# Altium schematic symbol library power_ac.SchLib: 7 symbols
Pins are listed as number, name and electrical type; pins without a type are passive.

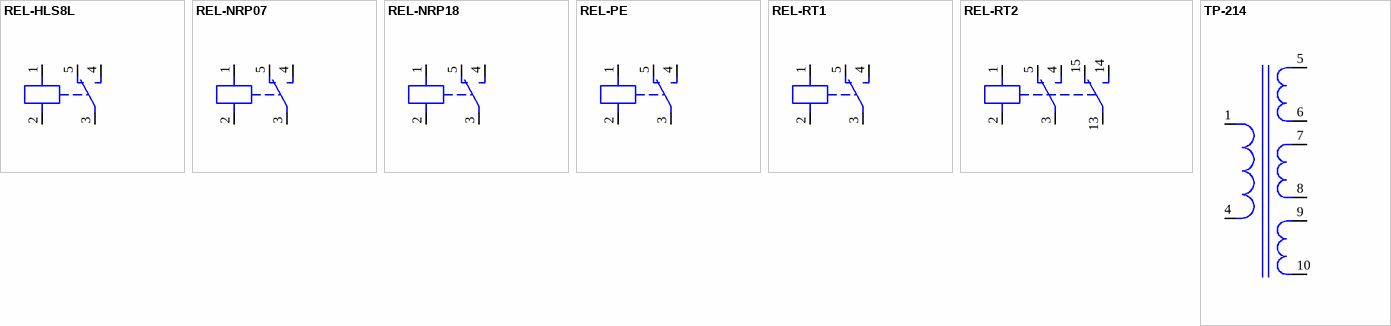
[diagram p0: symbols REL-HLS8L to TP-214]

## REL-HLS8L
designator K?  (value not drawn)
Automotive relay 10A; Name: REL-HLS8L; Value: *; RevisionDate: 11-01-2018
footprint REL-HLS8-16.0
pins: 1, 2, 3, 4, 5

## REL-NRP07
designator K?  (value not drawn)
Automotive relay; Name: *; Value: *; RevisionDate: 11-01-2018
footprint REL-NRP07-15.6
pins: 1, 2, 3, 4, 5

## REL-NRP18
designator K?  (value not drawn)
Automotive relay; Name: *; Value: *; RevisionDate: 11-01-2018
footprint REL-NRP18-14.0
pins: 1, 2, 3, 4, 5

## REL-PE
designator K?  (value not drawn)
Automotive relay; Name: *; Value: *; RevisionDate: 11-01-2018
footprint REL-PE-7.6-10.0
pins: 1, 2, 3, 4, 5

## REL-RT1
designator K?  (value not drawn)
Automotive relay; Name: *; Value: *; RevisionDate: 11-01-2018
footprint REL-RT1-3.5-15.7
footprint REL-RT1-5.0-15.7
pins: 1, 2, 3, 4, 5

## REL-RT2
designator K?  (value not drawn)
Automotive relay X2; Name: *; Value: *; RevisionDate: 11-01-2018
footprint REL-RT2-5.0-15.7
pins: 1, 2, 3, 4, 5, 13 3, 14 4, 15 5

## TP-214
designator T?  (value not drawn)
Transformer TP-214; Name: *; Value: *; RevisionDate: 11-01-2018
footprint TRANS-TP-214
pins: 1, 4, 5, 6, 7, 8, 9, 10